# EAGLE library part DRV8825 (library DRV8825)
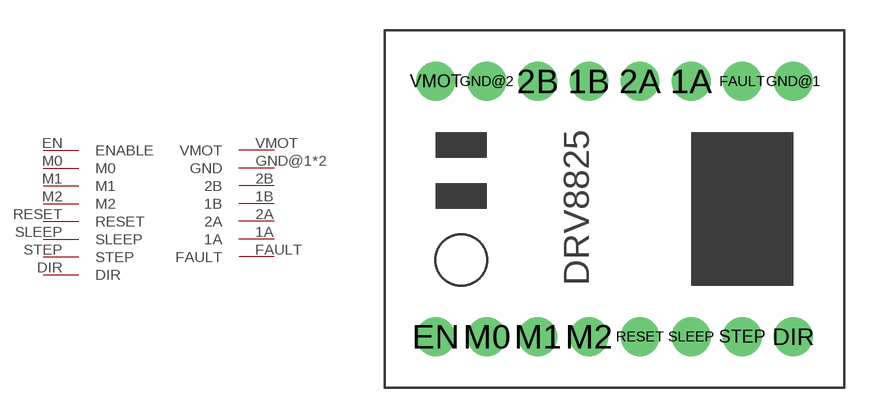
[diagram p0: symbol with the pads of DRV8825; footprint DRV8825]

Designator prefix -

## DRV8825  [DRV8825]
1A  1A
1B  1B
2A  2A
2B  2B
DIR  DIR
EN  ENABLE
FAULT  FAULT
GND@1  GND
GND@2  GND
M0  M0
M1  M1
M2  M2
RESET  RESET
SLEEP  SLEEP
STEP  STEP
VMOT  VMOT

## Footprint DRV8825 (pad centres in mm)
drill 0.6 pad 1.93: 1A 12.7,0; 1B 7.62,0; 2A 10.16,0; 2B 5.08,0; DIR 17.78,-12.7; EN 0,-12.7; FAULT 15.24,0; GND@1 17.78,0; GND@2 2.54,0; M0 2.54,-12.7; M1 5.08,-12.7; M2 7.62,-12.7; RESET 10.16,-12.7; SLEEP 12.7,-12.7; STEP 15.24,-12.7; VMOT 0,0